# EAGLE library part SL876Q5A001T001000 (library SL876Q5A001T001000)
Sl876q5-a Gnss Embedded Module
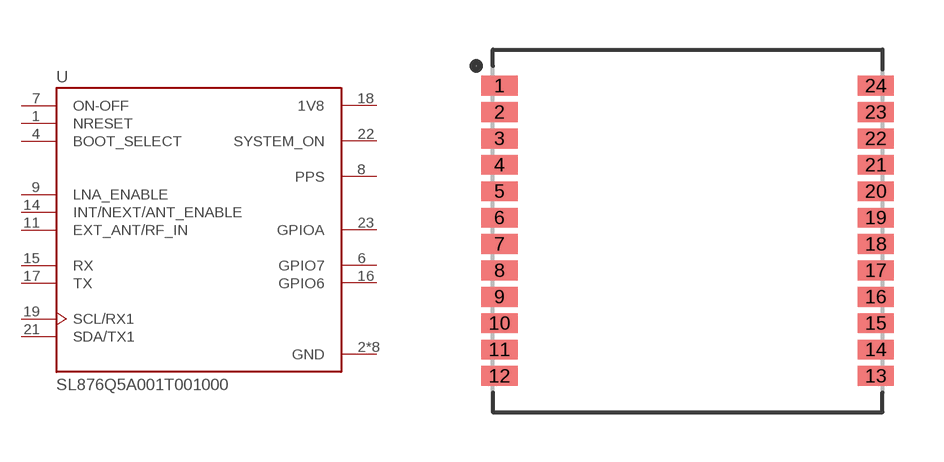
[diagram p0: symbol with the pads of XCVR_SL876Q5A001T001000; footprint XCVR_SL876Q5A001T001000]

Designator prefix U

## SL876Q5A001T001000 (Availability: Unavailable; Description: Sl876q5-a Gnss Embedded Module; MF: Telit; MP: SL876Q5A001T001000; Package: None; Price: None)  [XCVR_SL876Q5A001T001000]
1  NRESET  in
2  GND  pwr
3  GND  pwr
4  BOOT_SELECT  in
5  GND  pwr
6  GPIO7
7  ON-OFF  in
8  PPS  out
9  LNA_ENABLE  out
10  GND  pwr
11  EXT_ANT/RF_IN  in
12  GND  pwr
13  GND  pwr
14  INT/NEXT/ANT_ENABLE  in
15  RX  in
16  GPIO6
17  TX  out
18  1V8  pwr
19  SCL/RX1
20  GND  pwr
21  SDA/TX1
22  SYSTEM_ON  out
23  GPIOA  out
24  GND  pwr

## Footprint XCVR_SL876Q5A001T001000 (pad centres in mm)
smd 1.1 x 0.6: 1 -5.7,4.4; 2 -5.7,3.6; 3 -5.7,2.8; 4 -5.7,2; 5 -5.7,1.2; 6 -5.7,0.4; 7 -5.7,-0.4; 8 -5.7,-1.2; 9 -5.7,-2; 10 -5.7,-2.8; 11 -5.7,-3.6; 12 -5.7,-4.4; 13 5.7,-4.4; 14 5.7,-3.6; 15 5.7,-2.8; 16 5.7,-2; 17 5.7,-1.2; 18 5.7,-0.4; 19 5.7,0.4; 20 5.7,1.2; 21 5.7,2; 22 5.7,2.8; 23 5.7,3.6; 24 5.7,4.4